# Altium schematic symbol library MICRF113YM6-TR.SchLib: 1 symbol
Pins are listed as number, name and electrical type; pins without a type are passive.

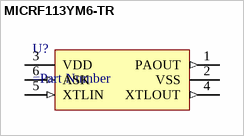
[diagram p0: symbol MICRF113YM6-TR]

## MICRF113YM6-TR
designator U?
=Description
pins: 1 PAOUT (out), 2 VSS (power), 3 VDD (power), 4 XTLOUT (out), 5 XTLIN (in), 6 ASK (in)